# Altium schematic symbol library Sch_Device_veryaz.SchLib: 543 symbols (part 4 of 4)
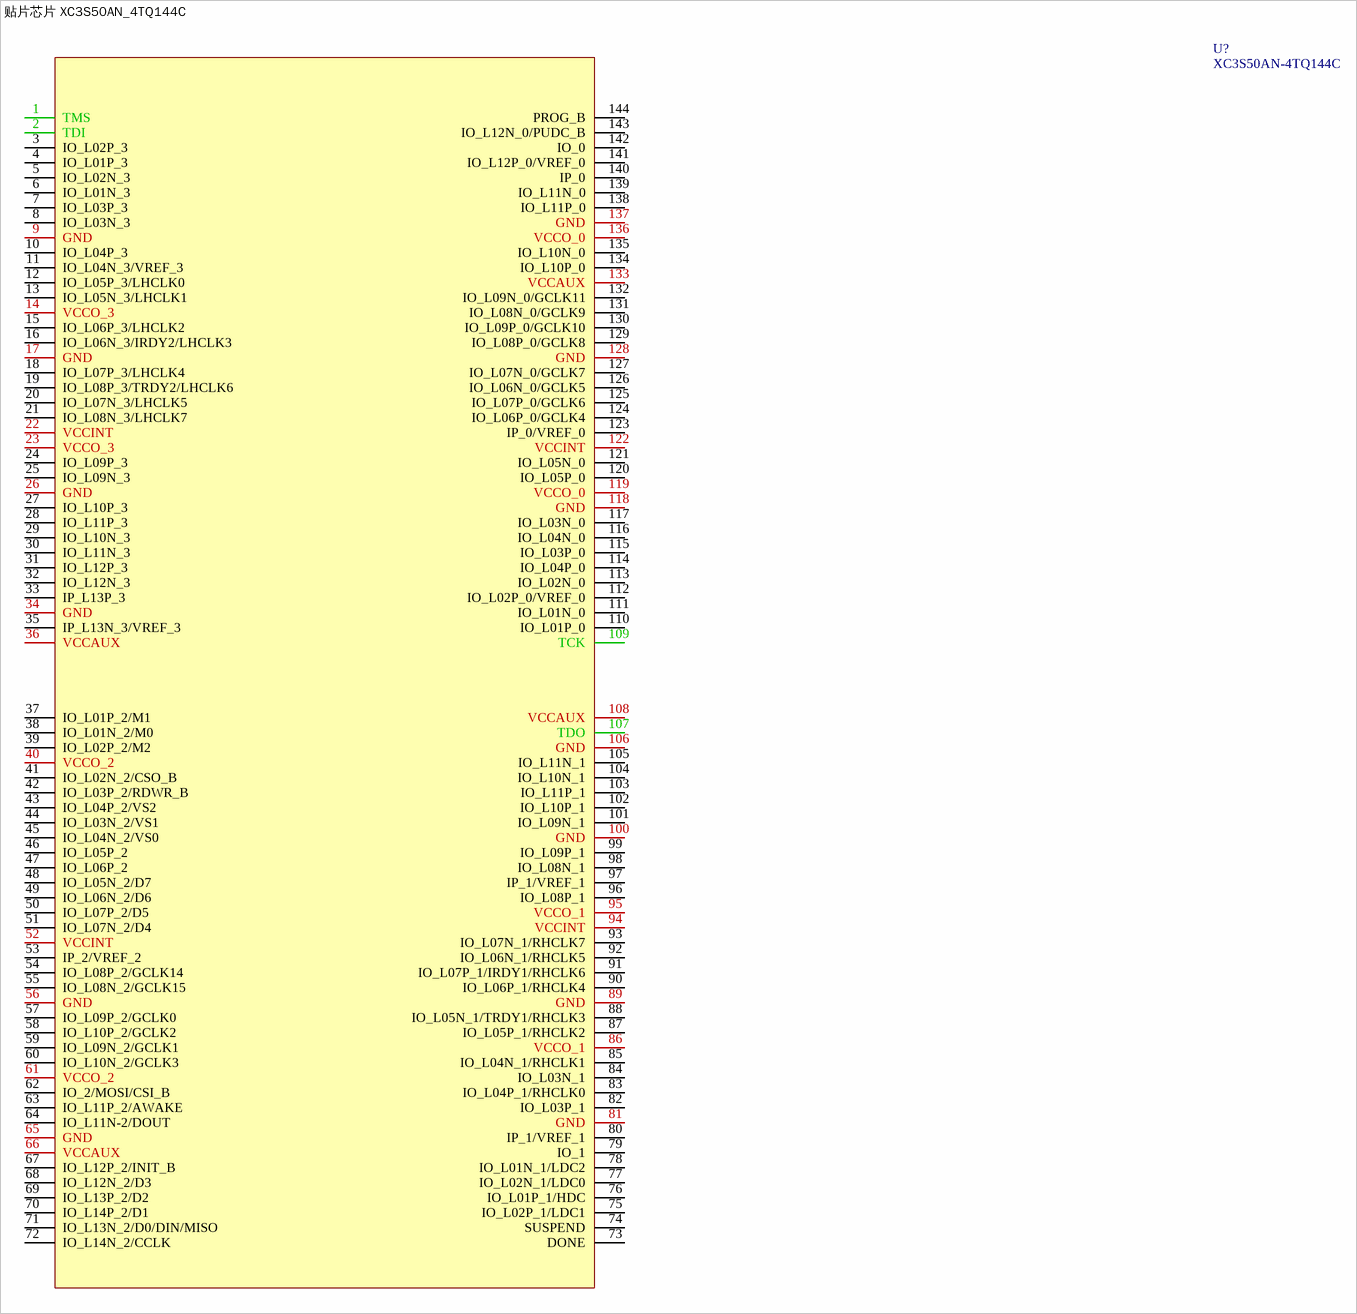
[diagram p29: symbol 贴片芯片 XC3S50AN_4TQ144C]

## 贴片芯片 XC3S50AN_4TQ144C
designator U?, comment XC3S50AN-4TQ144C
单位: 片; 封装: TQ144; 名称: 芯片
footprint TQ144_N (Footprint not found)
pins: 1 TMS, 2 TDI, 3 IO_L02P_3, 4 IO_L01P_3, 5 IO_L02N_3, 6 IO_L01N_3, 7 IO_L03P_3, 8 IO_L03N_3, 9 GND, 10 IO_L04P_3, 11 IO_L04N_3/VREF_3, 12 IO_L05P_3/LHCLK0, 13 IO_L05N_3/LHCLK1, 14 VCCO_3, 15 IO_L06P_3/LHCLK2, 16 IO_L06N_3/IRDY2/LHCLK3, 17 GND, 18 IO_L07P_3/LHCLK4, 19 IO_L08P_3/TRDY2/LHCLK6, 20 IO_L07N_3/LHCLK5, 21 IO_L08N_3/LHCLK7, 22 VCCINT, 23 VCCO_3, 24 IO_L09P_3, 25 IO_L09N_3, 26 GND, 27 IO_L10P_3, 28 IO_L11P_3, 29 IO_L10N_3, 30 IO_L11N_3, 31 IO_L12P_3, 32 IO_L12N_3, 33 IP_L13P_3, 34 GND, 35 IP_L13N_3/VREF_3, 36 VCCAUX, 37 IO_L01P_2/M1, 38 IO_L01N_2/M0, 39 IO_L02P_2/M2, 40 VCCO_2, 41 IO_L02N_2/CSO_B, 42 IO_L03P_2/RDWR_B, 43 IO_L04P_2/VS2, 44 IO_L03N_2/VS1, 45 IO_L04N_2/VS0, 46 IO_L05P_2, 47 IO_L06P_2, 48 IO_L05N_2/D7, 49 IO_L06N_2/D6, 50 IO_L07P_2/D5, 51 IO_L07N_2/D4, 52 VCCINT, 53 IP_2/VREF_2, 54 IO_L08P_2/GCLK14, 55 IO_L08N_2/GCLK15, 56 GND, 57 IO_L09P_2/GCLK0, 58 IO_L10P_2/GCLK2, 59 IO_L09N_2/GCLK1, 60 IO_L10N_2/GCLK3, 61 VCCO_2, 62 IO_2/MOSI/CSI_B, 63 IO_L11P_2/AWAKE, 64 IO_L11N-2/DOUT, 65 GND, 66 VCCAUX, 67 IO_L12P_2/INIT_B, 68 IO_L12N_2/D3, 69 IO_L13P_2/D2, 70 IO_L14P_2/D1, 71 IO_L13N_2/D0/DIN/MISO, 72 IO_L14N_2/CCLK, 73 DONE, 74 SUSPEND, 75 IO_L02P_1/LDC1, 76 IO_L01P_1/HDC, 77 IO_L02N_1/LDC0, 78 IO_L01N_1/LDC2, 79 IO_1, 80 IP_1/VREF_1, 81 GND, 82 IO_L03P_1, 83 IO_L04P_1/RHCLK0, 84 IO_L03N_1, 85 IO_L04N_1/RHCLK1, 86 VCCO_1, 87 IO_L05P_1/RHCLK2, 88 IO_L05N_1/TRDY1/RHCLK3, 89 GND, 90 IO_L06P_1/RHCLK4, 91 IO_L07P_1/IRDY1/RHCLK6, 92 IO_L06N_1/RHCLK5, 93 IO_L07N_1/RHCLK7, 94 VCCINT, 95 VCCO_1, 96 IO_L08P_1, 97 IP_1/VREF_1, 98 IO_L08N_1, 99 IO_L09P_1, 100 GND, 101 IO_L09N_1, 102 IO_L10P_1, 103 IO_L11P_1, 104 IO_L10N_1, 105 IO_L11N_1, 106 GND, 107 TDO, 108 VCCAUX, 109 TCK, 110 IO_L01P_0, 111 IO_L01N_0, 112 IO_L02P_0/VREF_0, 113 IO_L02N_0, 114 IO_L04P_0, 115 IO_L03P_0, 116 IO_L04N_0, 117 IO_L03N_0, 118 GND, 119 VCCO_0, 120 IO_L05P_0, 121 IO_L05N_0, 122 VCCINT, 123 IP_0/VREF_0, 124 IO_L06P_0/GCLK4, 125 IO_L07P_0/GCLK6, 126 IO_L06N_0/GCLK5, 127 IO_L07N_0/GCLK7, 128 GND, 129 IO_L08P_0/GCLK8, 130 IO_L09P_0/GCLK10, 131 IO_L08N_0/GCLK9, 132 IO_L09N_0/GCLK11, 133 VCCAUX, 134 IO_L10P_0, 135 IO_L10N_0, 136 VCCO_0, 137 GND, 138 IO_L11P_0, 139 IO_L11N_0, 140 IP_0, 141 IO_L12P_0/VREF_0, 142 IO_0, 143 IO_L12N_0/PUDC_B, 144 PROG_B

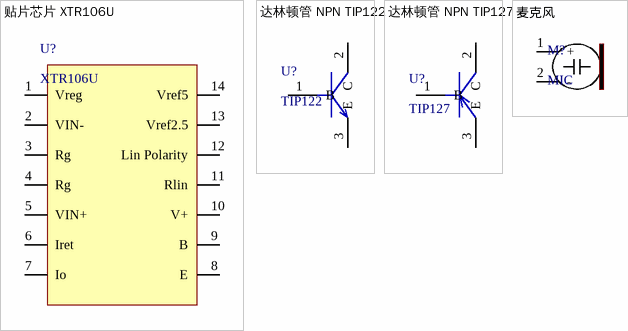
[diagram p26: symbols 贴片芯片 XTR106U to 麦克风]

## 贴片芯片 XTR106U
designator U?, comment XTR106U
单位: 片; 封装: SOIC8; 名称: 贴片芯片
footprint SOIC14 (Small Outline; 16 Leads; Body Width 3.9 mm; Pitch 1.27 mm)
pins: 1 Vreg, 2 VIN-, 3 Rg, 4 Rg, 5 VIN+, 6 Iret, 7 Io, 8 E, 9 B, 10 V+, 11 Rlin, 12 Lin Polarity, 13 Vref2.5, 14 Vref5

## 达林顿管 NPN TIP122
designator U?, comment TIP122
名称: 三极管; 封装: TO220; 单位: 片
footprint TO220
pins: 1 B, 2 C, 3 E

## 达林顿管 NPN TIP127
designator U?, comment TIP127
单位: 片; 名称: 三极管; 封装: TO220
footprint TO220
pins: 1 B, 2 C, 3 E

## 麦克风
designator M?, comment MIC
单位: 个; 名称: 麦克风; 封装: 直插
footprint 麦克风 卧贴 (Connector; Header; 2 Position)
pins: 1 +, 2 -